# EAGLE library part AP7312-1833W6-7 (library AP7312-1833W6-7)
LDO,Regulator,Pos,reg,3.3V,0.15A,SOT26 DiodesZetex AP7312-1833W6-7, Dual LDO Voltage Regulator, 150mA, 1.8 V, 3.3 V /-2%, 6-Pin SOT-26 Source: Datasheet <https://datasheet.datasheetarchive.com/originals/distributors/Datasheets-DGA25/1771631.pdf>
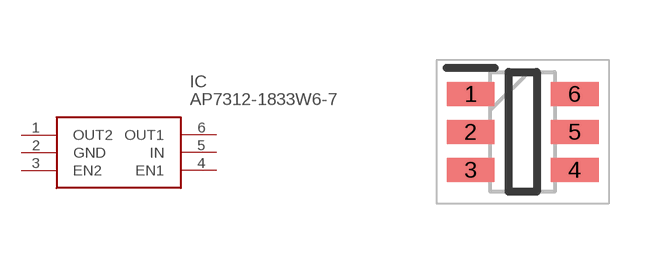
[diagram p0: symbol with the pads of SOT95P285X145-6N; footprint SOT95P285X145-6N]

Designator prefix IC

## AP7312-1833W6-7 (Description: LDO,Regulator,Pos,reg,3.3V,0.15A,SOT26 DiodesZetex AP7312-1833W6-7, Dual LDO Voltage Regulator, 150mA, 1.8 V, 3.3 V /-2%, 6-Pin SOT-26; Height: 1.45mm; Manufacturer_Name: Diodes Inc.; Manufacturer_Part_Number: AP7312-1833W6-7; Mouser_Part_Number: 621-AP7312-1833W6-7; Mouser_Price-Stock: https://www.mouser.co.uk/ProductDetail/Diodes-Incorporated/AP7312-1833W6-7?qs=gfe7vQ8txpU5mQKCTYslow%3D%3D)  [SOT95P285X145-6N]
1  OUT2  out
2  GND  pwr
3  EN2
4  EN1
5  IN  in
6  OUT1  out

## Footprint SOT95P285X145-6N (pad centres in mm)
SOT26-ren1
smd 1.2 x 0.6: 1 -1.3,0.95; 2 -1.3,0; 3 -1.3,-0.95; 4 1.3,-0.95; 5 1.3,0; 6 1.3,0.95